# Altium footprint library HTSSOP.PcbLib: 7 footprints
Each footprint in its own frame and in the unit in brackets; x right, y up, seen from the top. Pads: shape width x height; smd on the part's side, far side on the other; paste and mask are expansions set on the pad; w line width, h text height; cw(c..) or ccw(c..) is an arc to the next point about the centre after c.
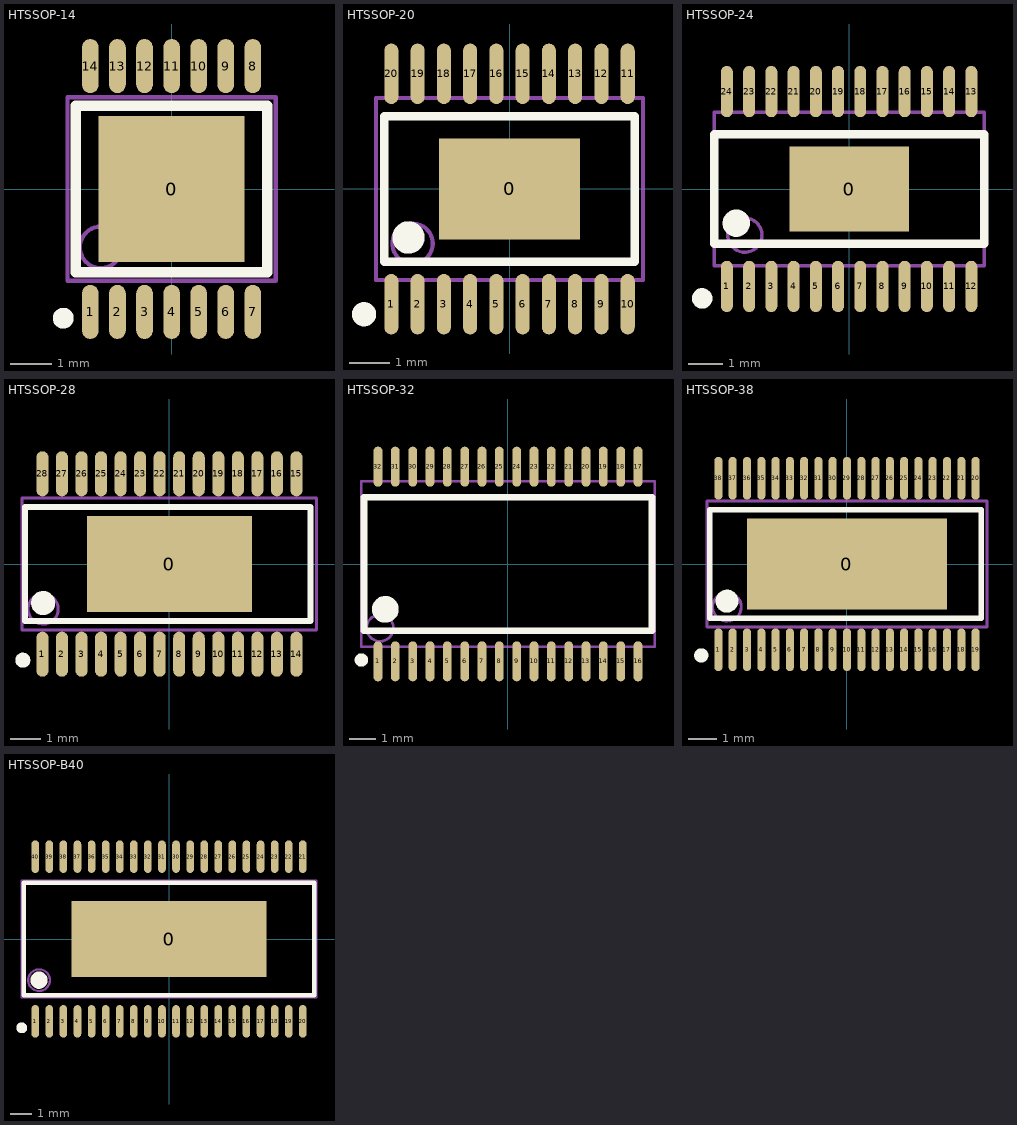
[diagram p0: the footprints below, top view; thin cyan lines are the x and y axes]

## HTSSOP-14 [mm]
pads (15):
  rect 3.5x3.5 smd mask+0.051: 0(0,0)
  oval 0.4x1.3 smd mask+0.051: 1(-1.95,-2.95) 2(-1.3,-2.95) 3(-0.65,-2.95) 4(0,-2.95) 5(0.65,-2.95) 6(1.3,-2.95) 7(1.95,-2.95) 8(1.95,2.95) 9(1.3,2.95) 10(0.65,2.95) 11(0,2.95) 12(-0.65,2.95) 13(-1.3,2.95) 14(-1.95,2.95)
Top Overlay:
  circle w0.25: c-2.6,-3.1 r0.125
  lines w0.254: -2.3,-2 2.3,-2 2.3,2 -2.3,2 -2.3,-2
Mechanical 13:
  circle w0.1: c-1.7,-1.4 r0.5
  lines w0.1: -2.5,-2.2 2.5,-2.2 2.5,2.2 -2.5,2.2 -2.5,-2.2

## HTSSOP-20 [mm]
pads (21):
  rect 3.5x2.5 smd mask+0.051: 0(0,0)
  oval 0.35x1.5 smd: 1(-2.925,-2.85) 2(-2.275,-2.85) 3(-1.625,-2.85) 4(-0.975,-2.85) 5(-0.325,-2.85) 6(0.325,-2.85) 7(0.975,-2.85) 8(1.625,-2.85) 9(2.275,-2.85) 10(2.925,-2.85) 11(2.925,2.85) 12(2.275,2.85) 13(1.625,2.85) 14(0.975,2.85) 15(0.325,2.85) 16(-0.325,2.85) 17(-0.975,2.85) 18(-1.625,2.85) 19(-2.275,2.85) 20(-2.925,2.85)
Top Overlay:
  circle w0.4: c-2.5,-1.2 r0.2
  circle w0.3: c-3.6,-3.1 r0.15
  lines w0.2: -3.1,-1.8 3.1,-1.8 3.1,1.8 -3.1,1.8 -3.1,-1.8
Mechanical 13:
  circle w0.1: c-2.4,-1.35 r0.5
  lines w0.1: -3.3,-2.25 3.3,-2.25 3.3,2.25 -3.3,2.25 -3.3,-2.25
3D body "TSSOP20.STEP": height 1.1, standoff -0.09, extent -3.15,-3.05 3.35,3.23

## HTSSOP-24 [mm]
pads (25):
  rect 3.5x2.5 smd mask+0.051: 0(0,0)
  oval 0.35x1.5 smd: 1(-3.575,-2.85) 2(-2.925,-2.85) 3(-2.275,-2.85) 4(-1.625,-2.85) 5(-0.975,-2.85) 6(-0.325,-2.85) 7(0.325,-2.85) 8(0.975,-2.85) 9(1.625,-2.85) 10(2.275,-2.85) 11(2.925,-2.85) 12(3.575,-2.85) 13(3.575,2.85) 14(2.925,2.85) 15(2.275,2.85) 16(1.625,2.85) 17(0.975,2.85) 18(0.325,2.85) 19(-0.325,2.85) 20(-0.975,2.85) 21(-1.625,2.85) 22(-2.275,2.85) 23(-2.925,2.85) 24(-3.575,2.85)
Top Overlay:
  circle w0.3: c-4.3,-3.2 r0.15
  circle w0.4: c-3.3,-1 r0.2
  lines w0.254: -3.95,-1.6 -3.95,1.6 3.95,1.6 3.95,-1.6 -3.95,-1.6
Mechanical 13:
  circle w0.1: c-3.05,-1.35 r0.5
  lines w0.1: -3.95,-2.25 -3.95,2.25 3.95,2.25 3.95,-2.25 -3.95,-2.25

## HTSSOP-28 [mm]
pads (29):
  rect 5.5x3.2 smd mask+0.051: 0(0,0)
  oval 0.4x1.5 smd: 1(-4.225,-3) 2(-3.575,-3) 3(-2.925,-3) 4(-2.275,-3) 5(-1.625,-3) 6(-0.975,-3) 7(-0.325,-3) 8(0.325,-3) 9(0.975,-3) 10(1.625,-3) 11(2.275,-3) 12(2.925,-3) 13(3.575,-3) 14(4.225,-3) 15(4.225,3) 16(3.575,3) 17(2.925,3) 18(2.275,3) 19(1.625,3) 20(0.975,3) 21(0.325,3) 22(-0.325,3) 23(-0.975,3) 24(-1.625,3) 25(-2.275,3) 26(-2.925,3) 27(-3.575,3) 28(-4.225,3)
Top Overlay:
  circle w0.25: c-4.88,-3.2 r0.125
  circle w0.4: c-4.2,-1.3 r0.2
  lines w0.2: -4.8,-1.9 4.7,-1.9 4.7,1.9 -4.8,1.9 -4.8,-1.9
Mechanical 13:
  circle w0.1: c-4.2,-1.5 r0.5
  lines w0.1: -4.9,-2.2 -4.9,2.2 4.9,2.2 4.9,-2.2 -4.9,-2.2
3D body "TSSOP-28.STEP": height 0.97, standoff -0.02, extent -4.85,-3.2 4.85,3.2

## HTSSOP-32 [mm]
pads (32):
  oval 0.33x1.5 smd: 1(-4.875,-3.65) 2(-4.225,-3.65) 3(-3.575,-3.65) 4(-2.925,-3.65) 5(-2.275,-3.65) 6(-1.625,-3.65) 7(-0.975,-3.65) 8(-0.325,-3.65) 9(0.325,-3.65) 10(0.975,-3.65) 11(1.625,-3.65) 12(2.275,-3.65) 13(2.925,-3.65) 14(3.575,-3.65) 15(4.225,-3.65) 16(4.875,-3.65) 17(4.875,3.65) 18(4.225,3.65) 19(3.575,3.65) 20(2.925,3.65) 21(2.275,3.65) 22(1.625,3.65) 23(0.975,3.65) 24(0.325,3.65) 25(-0.325,3.65) 26(-0.975,3.65) 27(-1.625,3.65) 28(-2.275,3.65) 29(-2.925,3.65) 30(-3.575,3.65) 31(-4.225,3.65) 32(-4.875,3.65)
Top Overlay:
  circle w0.5: c-4.6,-1.7 r0.25
  circle w0.25: c-5.5,-3.6 r0.125
  lines w0.254: -5.4,-2.5 5.4,-2.5 5.4,2.5 -5.4,2.5 -5.4,-2.5
Mechanical 13:
  circle w0.1: c-4.8,-2.4 r0.5
  lines w0.1: -5.5,-3.1 5.5,-3.1 5.5,3.1 -5.5,3.1 -5.5,-3.1

## HTSSOP-38 [mm]
pads (39):
  rect 7x3.2 smd mask+0.051: 0(0,0)
  oval 0.28x1.5 smd mask+0.051: 1(-4.5,-3) 2(-4,-3) 3(-3.5,-3) 4(-3,-3) 5(-2.5,-3) 6(-2,-3) 7(-1.5,-3) 8(-1,-3) 9(-0.5,-3) 10(0,-3) 11(0.5,-3) 12(1,-3) 13(1.5,-3) 14(2,-3) 15(2.5,-3) 16(3,-3) 17(3.5,-3) 18(4,-3) 19(4.5,-3) 20(4.5,3) 21(4,3) 22(3.5,3) 23(3,3) 24(2.5,3) 25(2,3) 26(1.5,3) 27(1,3) 28(0.5,3) 29(0,3) 30(-0.5,3) 31(-1,3) 32(-1.5,3) 33(-2,3) 34(-2.5,3) 35(-3,3) 36(-3.5,3) 37(-4,3) 38(-4.5,3)
Top Overlay:
  circle w0.25: c-5.1,-3.2 r0.125
  circle w0.4: c-4.2,-1.3 r0.2
  lines w0.2: -4.8,-1.9 4.7,-1.9 4.7,1.9 -4.8,1.9 -4.8,-1.9
Mechanical 13:
  circle w0.1: c-4.2,-1.5 r0.5
  lines w0.1: -4.9,-2.2 -4.9,2.2 4.9,2.2 4.9,-2.2 -4.9,-2.2

## HTSSOP-B40 [mm]
pads (41):
  rect 9x3.5 smd mask+0.051: 0(0,0)
  oval 0.35x1.5 smd: 1(-6.175,-3.8) 2(-5.525,-3.8) 3(-4.875,-3.8) 4(-4.225,-3.8) 5(-3.575,-3.8) 6(-2.925,-3.8) 7(-2.275,-3.8) 8(-1.625,-3.8) 9(-0.975,-3.8) 10(-0.325,-3.8) 11(0.325,-3.8) 12(0.975,-3.8) 13(1.625,-3.8) 14(2.275,-3.8) 15(2.925,-3.8) 16(3.575,-3.8) 17(4.225,-3.8) 18(4.875,-3.8) 19(5.525,-3.8) 20(6.175,-3.8) 21(6.175,3.8) 22(5.525,3.8) 23(4.875,3.8) 24(4.225,3.8) 25(3.575,3.8) 26(2.925,3.8) 27(2.275,3.8) 28(1.625,3.8) 29(0.975,3.8) 30(0.325,3.8) 31(-0.325,3.8) 32(-0.975,3.8) 33(-1.625,3.8) 34(-2.275,3.8) 35(-2.925,3.8) 36(-3.575,3.8) 37(-4.225,3.8) 38(-4.875,3.8) 39(-5.525,3.8) 40(-6.175,3.8)
Top Overlay:
  circle w0.25: c-6.8,-4.1 r0.125
  circle w0.4: c-6,-1.9 r0.2
  lines w0.2: -6.7,-2.6 6.7,-2.6 6.7,2.6 -6.7,2.6 -6.7,-2.6
Mechanical 13:
  circle w0.1: c-6,-1.9 r0.5
  lines w0.1: -6.8,-2.7 6.8,-2.7 6.8,2.7 -6.8,2.7 -6.8,-2.7